# Altium schematic symbol library Alt_git.SchLib: 115 symbols
Pins are listed as number, name and electrical type; pins without a type are passive.

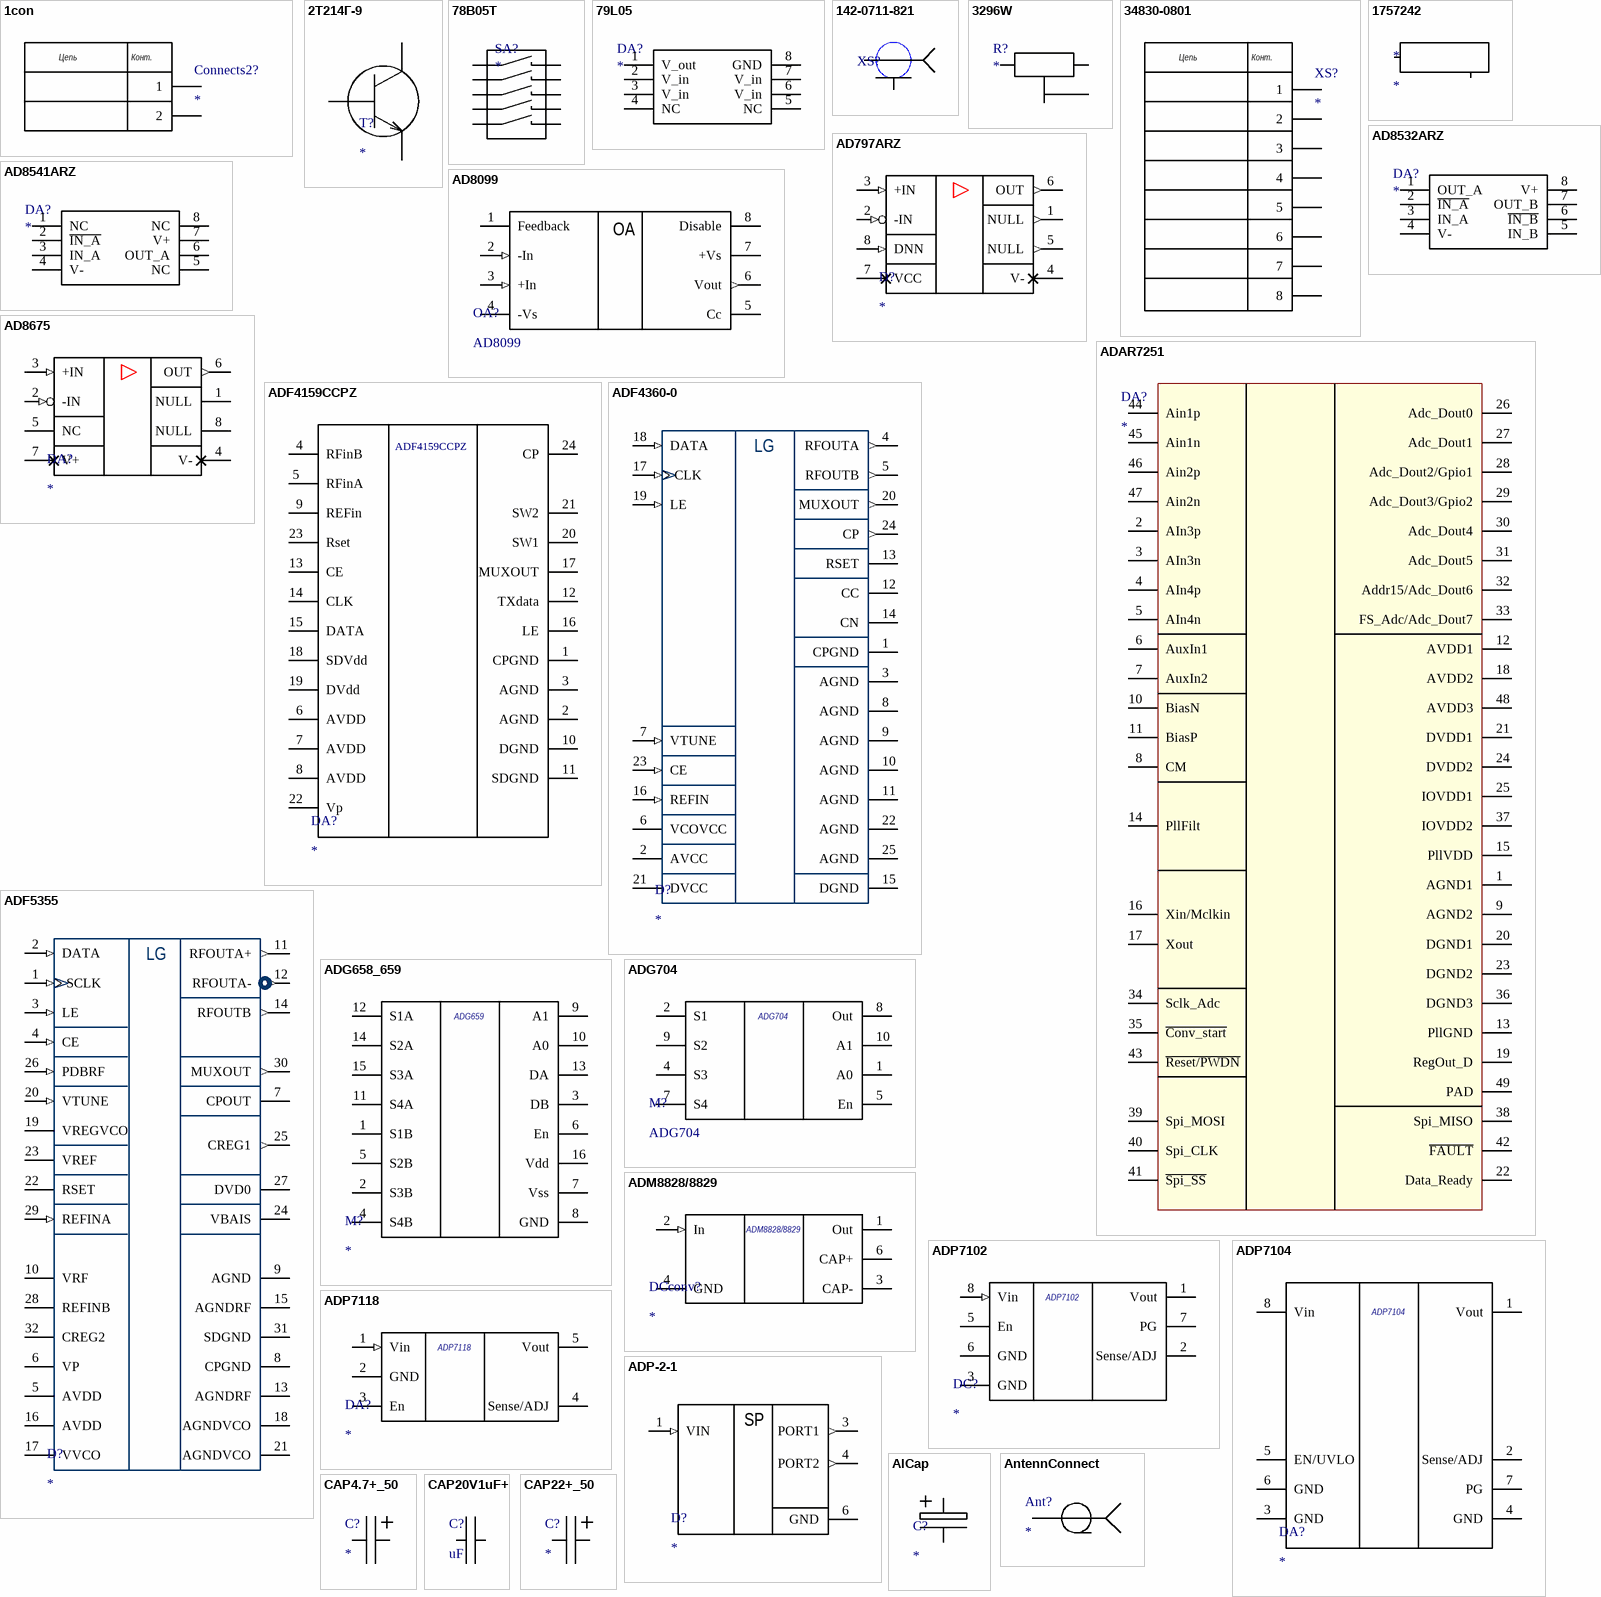
[diagram p0: symbols 1con to CAP22+_50]

## 1con
designator Connects2?
pins: 1, 2
text: Цепь; Конт.

## 2Т214Г-9
designator T?
footprint 2Т214Г-9
pins: 1 B, 2 E, 3 K

## 78B05T
designator SA?
footprint 78B05T
pins: 1, 2, 3, 4, 5, 6, 7, 8, 9, 10

## 79L05
designator DA?
footprint SOIC_8
pins: 1 V_out, 2 V_in, 3 V_in, 4 NC, 5 NC, 6 V_in, 7 V_in, 8 GND

## 142-0711-821
designator XS?  (value not drawn)
footprint 142-0711-821
pins: 1, 2

## 3296W
designator R?
footprint 3296W
pins: 1, 2, 3

## 34830-0801
designator XS?
footprint 34830-0801 (Molex MX150 PCB connector)
pins: 1, 2, 3, 4, 5, 6, 7, 8
text: Цепь; Конт.

## 1757242
designator *
footprint 1757242
pins: 1, 2

## AD797ARZ
designator D?
footprint AD797ARZ
pins: 1 NULL (out), 2 -IN (in), 3 +IN (in), 4 V- (power), 5 NULL (out), 6 OUT (out), 7 VCC (power), 8 DNN (in)

## AD8099
designator OA?
footprint SOIC_8_EP
pins: 1 Feedback, 2 -In (in), 3 +In (in), 4 -Vs, 5 Cc, 6 Vout (out), 7 +Vs, 8 Disable
text: OA

## AD8532ARZ
designator DA?
footprint SOIC_8
pins: 1 OUT_A, 2 ~{IN_A}, 3 IN_A, 4 V-, 5 IN_B, 6 ~{IN_B}, 7 OUT_B, 8 V+

## AD8541ARZ
designator DA?
footprint SOIC_8
pins: 1 NC, 2 ~{IN_A}, 3 IN_A, 4 V-, 5 NC, 6 OUT_A, 7 V+, 8 NC

## AD8675
designator DA?
footprint SOIC_8
pins: 1 NULL, 2 -IN (in), 3 +IN (in), 4 V- (power), 5 NC, 6 OUT (out), 7 V+ (power), 8 NULL

## ADAR7251
designator DA?
footprint PQFN50P700X700X100_HS-49N (PQFN, 48-Leads, Body 7,00x7,00mm, Pitch 0,50mm, Thermal Pad 4,00x5,60mm, IPC Medium Density)
pins: 1 AGND1, 2 AIn3p, 3 AIn3n, 4 AIn4p, 5 AIn4n, 6 AuxIn1, 7 AuxIn2, 8 CM, 9 AGND2, 10 BiasN, 11 BiasP, 12 AVDD1, 13 PllGND, 14 PllFilt, 15 PllVDD, 16 Xin/Mclkin, 17 Xout, 18 AVDD2, 19 RegOut_D, 20 DGND1, 21 DVDD1, 22 Data_Ready, 23 DGND2, 24 DVDD2, 25 IOVDD1, 26 Adc_Dout0, 27 Adc_Dout1, 28 Adc_Dout2/Gpio1, 29 Adc_Dout3/Gpio2, 30 Adc_Dout4, 31 Adc_Dout5, 32 Addr15/Adc_Dout6, 33 FS_Adc/Adc_Dout7, 34 Sclk_Adc, 35 ~{Conv_start}, 36 DGND3, 37 IOVDD2, 38 Spi_MISO, 39 Spi_MOSI, 40 Spi_CLK, 41 ~{Spi_SS}, 42 ~{FAULT}, 43 ~{Reset/PWDN}, 44 Ain1p, 45 Ain1n, 46 Ain2p, 47 Ain2n, 48 AVDD3, 49 PAD

## ADF4159CCPZ
designator DA?
footprint CP-24-10
pins: 1 CPGND, 2 AGND, 3 AGND, 4 RFinB, 5  RFinA, 6 AVDD, 7 AVDD, 8 AVDD, 9 REFin, 10 DGND, 11 SDGND, 12 TXdata, 13 CE, 14 CLK, 15 DATA, 16 LE, 17 MUXOUT, 18 SDVdd, 19 DVdd, 20 SW1, 21 SW2, 22 Vp, 23 Rset, 24 CP

## ADF4360-0
designator D?
footprint ADF4360-0
pins: 1 CPGND (power), 2 AVCC (power), 3 AGND (power), 4 RFOUTA (out), 5 RFOUTB (out), 6 VCOVCC (power), 7 VTUNE (in), 8 AGND (power), 9 AGND (power), 10 AGND (power), 11 AGND (power), 12 CC, 13 RSET, 14 CN, 15 DGND (power), 16 REFIN (in), 17 CLK (in), 18 DATA (in), 19 LE (in), 20 MUXOUT (out), 21 DVCC (power), 22 AGND (power), 23 CE (in), 24 CP (out), 25 AGND (power)
text: LG

## ADF5355
designator D?
footprint ADF5355
pins: 1 SCLK (in), 2 DATA (in), 3 LE (in), 4 CE (in), 5 AVDD, 6 VP (power), 7 CPOUT (power), 8 CPGND (power), 9 AGND (power), 10 VRF (power), 11 RFOUTA+ (out), 12 RFOUTA- (out), 13 AGNDRF (power), 14 RFOUTB (out), 15 AGNDRF (power), 16 AVDD (power), 17 VVCO (power), 18 AGNDVCO (power), 19 VREGVCO (power), 20 VTUNE (in), 21 AGNDVCO (power), 22 RSET, 23 VREF, 24 VBAIS, 25 CREG1 (out), 26 PDBRF (in), 27 DVD0 (power), 28 REFINB (power), 29 REFINA (in), 30 MUXOUT (out), 31 SDGND (power), 32 CREG2 (power)
text: LG

## ADG658_659
designator M?
footprint TSSOP16
pins: 1 S1B (power), 2 S3B, 3 DB, 4 S4B, 5 S2B, 6 En (power), 7 Vss, 8 GND, 9 A1, 10 A0, 11 S4A, 12 S1A (power), 13 DA, 14 S2A, 15 S3A, 16 Vdd
text: ADG659

## ADG704
designator M?
footprint SOIC10
pins: 1 A0, 2 S1 (power), 4 S3, 5 En (power), 7 S4, 8 Out, 9 S2, 10 A1

## ADM8828/8829
designator DCconv?
footprint 6-Lead_SOT23
pins: 1 Out, 2 In (in), 3 CAP-, 4 GND, 6 CAP+

## ADP7102
designator DC?
footprint SOIC_8_EP
pins: 1 Vout, 2 Sense/ADJ, 3 GND, 5 En, 6 GND, 7 PG, 8 Vin (in)

## ADP7104
designator DA?
footprint SOIC_8_EP
pins: 1 Vout, 2 Sense/ADJ, 3 GND, 4 GND, 5 EN/UVLO, 6 GND, 7 PG, 8 Vin

## ADP7118
designator DA?
footprint TSOT5
pins: 1 Vin (in), 2 GND, 3 En, 4 Sense/ADJ, 5 Vout

## ADP-2-1
designator D?
footprint ADP-2-1
pins: 1 VIN (in), 3 PORT1 (out), 4 PORT2 (out), 6 GND (power)
text: SP

## AlCap
designator C?
footprint 0405AlC
pins: 1, 2

## AntennConnect
designator Ant?
footprint AntennConnect
pins: 1

## CAP4.7+_50
designator C?
footprint CAP4.7+_50
pins: 1, 2

## CAP20V1uF+
designator C?, comment uF
footprint 7343-43EIA
pins: 1, 2

## CAP22+_50
designator C?
footprint CAP22+_50
pins: 1, 2

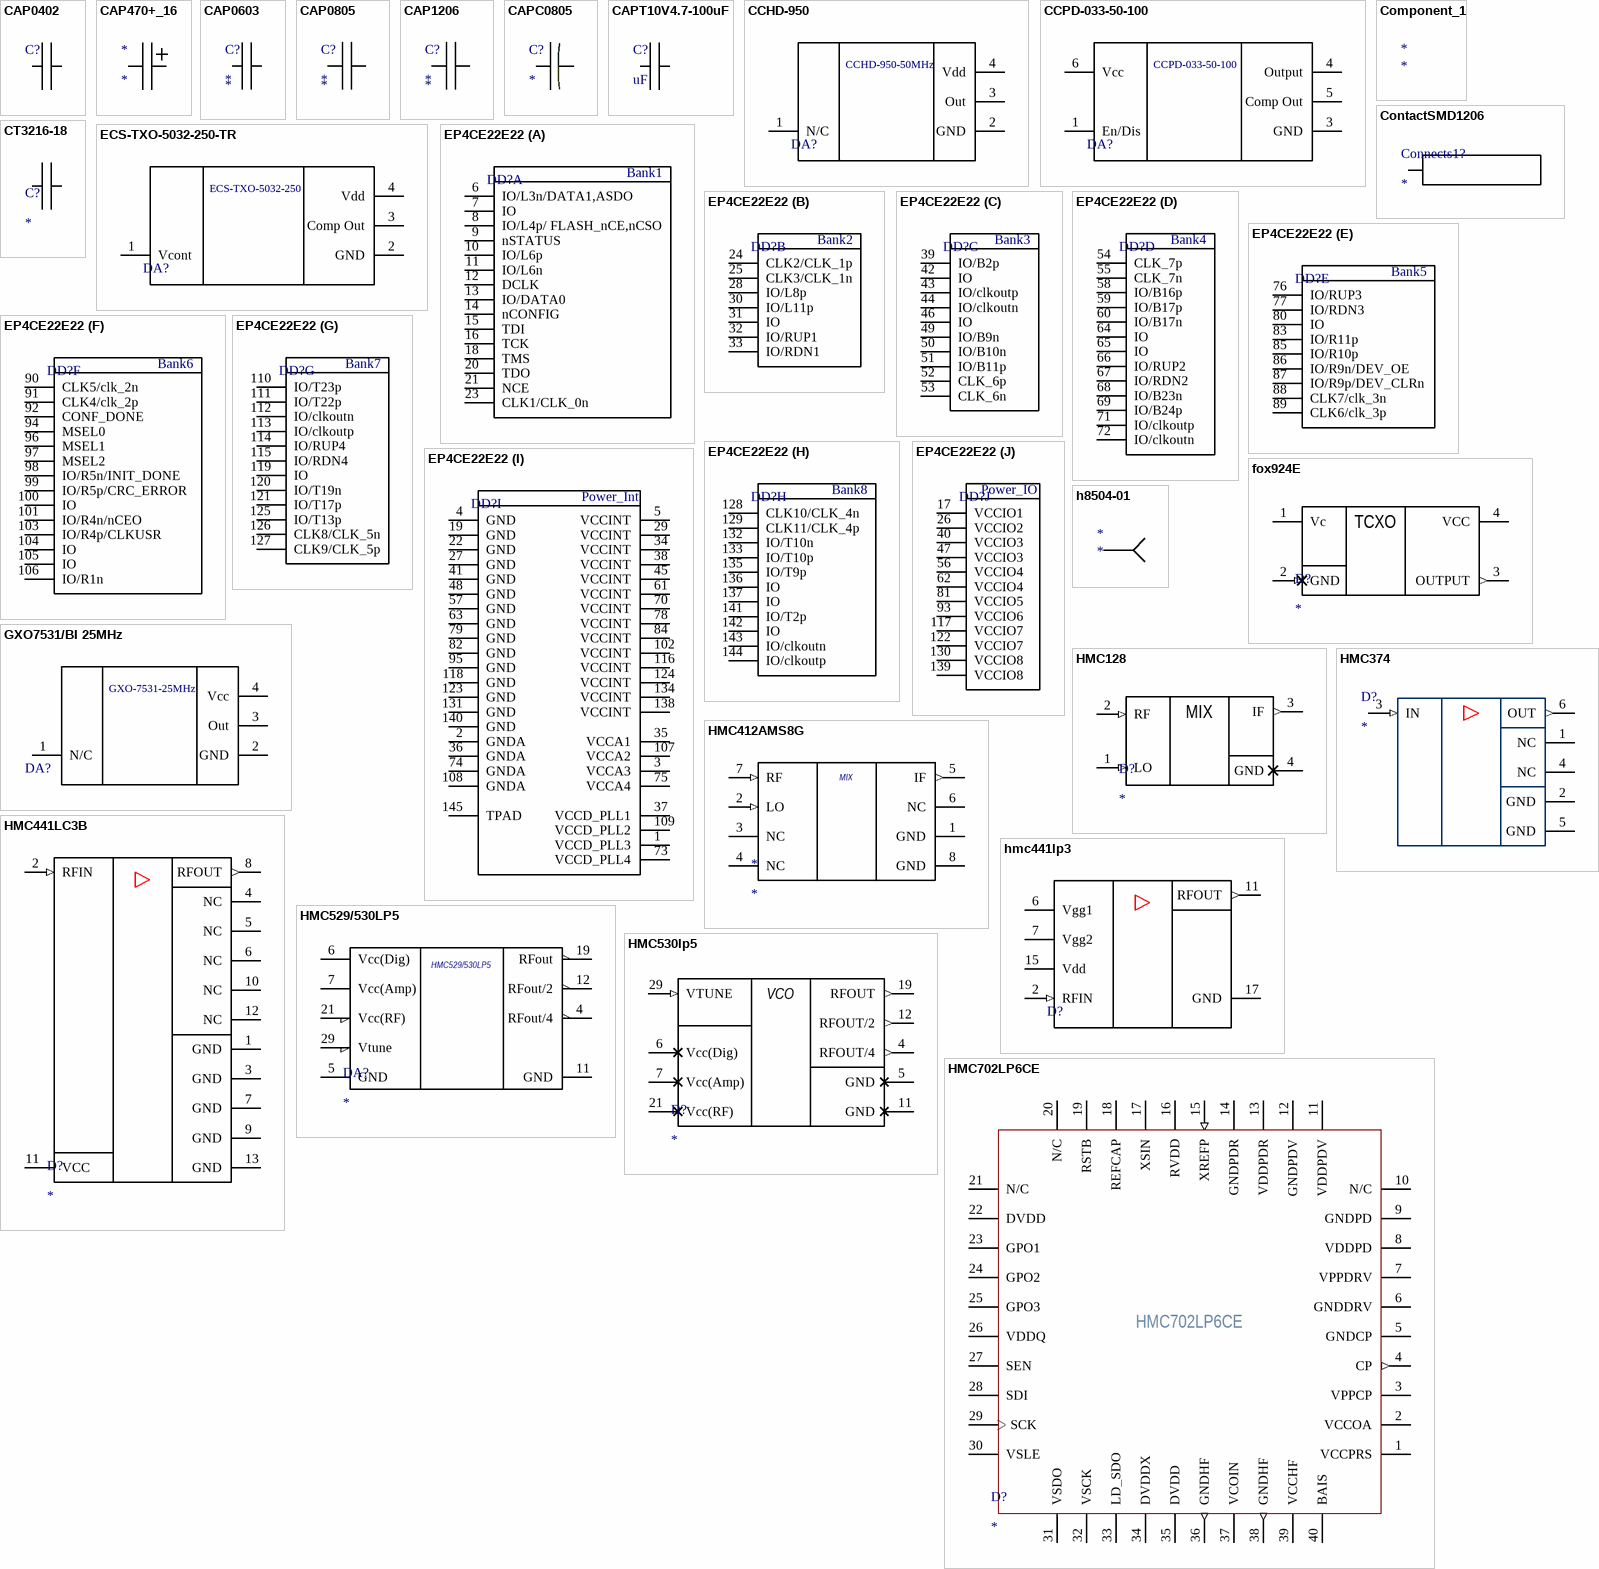
[diagram p1: symbols CAP0402 to HMC702LP6CE]

## CAP0402
designator C?
footprint CAP0402
pins: 1, 2

## CAP470+_16
designator *
footprint CAP470+_16
pins: 1, 2

## CAP0603
designator C?
Value: *
footprint CAP0603
pins: 1, 2

## CAP0805
designator C?
Value: *
footprint SMD0805
pins: 1, 2

## CAP1206
designator C?
Value: *
footprint SMD1206
pins: 1, 2

## CAPC0805
designator C?
footprint SMD0805
pins: 1, 2

## CAPT10V4.7-100uF
designator C?, comment uF
footprint B3528-21
pins: 1, 2

## CCHD-950
designator DA?  (value not drawn)
footprint CCHD-950
pins: 1 N/C, 2 GND (power), 3 Out, 4 Vdd
text: CCHD-950-50MHz

## CCPD-033-50-100
designator DA?  (value not drawn)
footprint CCPD
pins: 1 En/Dis, 3 GND, 4 Output, 5 Comp Out (power), 6 Vcc

## Component_1
designator *

## ContactSMD1206
designator Connects1?
pins: 1

## CT3216-18
designator C?
footprint 3216-18
pins: 1, 2

## ECS-TXO-5032-250-TR
designator DA?  (value not drawn)
footprint ECS-TXO-5032
pins: 1 Vcont, 2 GND, 3 Comp Out (power), 4 Vdd
text: ECS-TXO-5032-250

## EP4CE22E22
designator DD?  (value not drawn)
footprint EQFP144_TP (SQFP, 144-Leads, Body 20,00x20,00mm, Pitch 0,50mm, Thermal Pad 7,00x7,00mm, IPC Medium Density)
part A pins: 6 IO/L3n/DATA1,ASDO, 7 IO, 8 IO/L4p/ FLASH_nCE,nCSO, 9 nSTATUS, 10 IO/L6p, 11 IO/L6n, 12 DCLK, 13 IO/DATA0, 14 nCONFIG, 15 TDI, 16 TCK, 18 TMS, 20 TDO, 21 NCE, 23 CLK1/CLK_0n
part B pins: 24 CLK2/CLK_1p, 25 CLK3/CLK_1n, 28 IO/L8p, 30 IO/L11p, 31 IO, 32 IO/RUP1, 33 IO/RDN1
part C pins: 39 IO/B2p, 42 IO, 43 IO/clkoutp, 44 IO/clkoutn, 46 IO, 49 IO/B9n, 50 IO/B10n, 51 IO/B11p, 52 CLK_6p, 53 CLK_6n
part D pins: 54 CLK_7p, 55 CLK_7n, 58 IO/B16p, 59 IO/B17p, 60 IO/B17n, 64 IO, 65 IO, 66 IO/RUP2, 67 IO/RDN2, 68 IO/B23n, 69 IO/B24p, 71 IO/clkoutp, 72 IO/clkoutn
part E pins: 76 IO/RUP3, 77 IO/RDN3, 80 IO, 83 IO/R11p, 85 IO/R10p, 86 IO/R9n/DEV_OE, 87 IO/R9p/DEV_CLRn, 88 CLK7/clk_3n, 89 CLK6/clk_3p
part F pins: 90 CLK5/clk_2n, 91 CLK4/clk_2p, 92 CONF_DONE, 94 MSEL0, 96 MSEL1, 97 MSEL2, 98 IO/R5n/INIT_DONE, 99 IO/R5p/CRC_ERROR, 100 IO, 101 IO/R4n/nCEO, 103 IO/R4p/CLKUSR, 104 IO, 105 IO, 106 IO/R1n
part G pins: 110 IO/T23p, 111 IO/T22p, 112 IO/clkoutn, 113 IO/clkoutp, 114 IO/RUP4, 115 IO/RDN4, 119 IO, 120 IO/T19n, 121 IO/T17p, 125 IO/T13p, 126 CLK8/CLK_5n, 127 CLK9/CLK_5p
part H pins: 128 CLK10/CLK_4n, 129 CLK11/CLK_4p, 132 IO/T10n, 133 IO/T10p, 135 IO/T9p, 136 IO, 137 IO, 141 IO/T2p, 142 IO, 143 IO/clkoutn, 144 IO/clkoutp
part I pins: 1 VCCD_PLL3, 2 GNDA, 3 VCCA3, 4 GND, 5 VCCINT, 19 GND, 22 GND, 27 GND, 29 VCCINT, 34 VCCINT, 35 VCCA1, 36 GNDA, 37 VCCD_PLL1, 38 VCCINT, 41 GND, 45 VCCINT, 48 GND, 57 GND, 61 VCCINT, 63 GND, 70 VCCINT, 73 VCCD_PLL4, 74 GNDA, 75 VCCA4, 78 VCCINT, 79 GND, 82 GND, 84 VCCINT, 95 GND, 102 VCCINT, 107 VCCA2, 108 GNDA, 109 VCCD_PLL2, 116 VCCINT, 118 GND, 123 GND, 124 VCCINT, 131 GND, 134 VCCINT, 138 VCCINT, 140 GND, 145 TPAD
part J pins: 17 VCCIO1, 26 VCCIO2, 40 VCCIO3, 47 VCCIO3, 56 VCCIO4, 62 VCCIO4, 81 VCCIO5, 93 VCCIO6, 117 VCCIO7, 122 VCCIO7, 130 VCCIO8, 139 VCCIO8
part A text: Bank1
part B text: Bank2
part C text: Bank3
part D text: Bank4
part E text: Bank5
part F text: Bank6
part G text: Bank7
part H text: Bank8
part I text: Power_Int
part J text: Power_IO

## fox924E
designator D?
footprint fox924E
pins: 1 Vc (power), 2 GND (in), 3 OUTPUT (out), 4 VCC (power)
text: TCXO

## GXO7531/BI 25MHz
designator DA?  (value not drawn)
footprint DFN400P700X145-4N
pins: 1 N/C, 2 GND (power), 3 Out, 4 Vcc
text: GXO-7531-25MHz

## h8504-01
designator *
footprint H8504-01
pins: 1

## HMC128
designator D?
footprint HMC128
pins: 1 LO (in), 2 RF (in), 3 IF (out), 4 GND (power)
text: MIX

## HMC374
designator D?
footprint HMC374
pins: 1 NC, 2 GND (power), 3 IN (in), 4 NC, 5 GND (power), 6 OUT (out)

## HMC412AMS8G
designator *
footprint HMC412AMS8G
pins: 1 GND, 2 LO (in), 3 NC, 4 NC, 5 IF (out), 6 NC, 7 RF (in), 8 GND
text: MIX

## HMC441LC3B
designator D?
footprint HMC441LC3B
pins: 1 GND (power), 2 RFIN (in), 3 GND (power), 4 NC, 5 NC, 6 NC, 7 GND (power), 8 RFOUT (out), 9 GND (power), 10 NC, 11 VCC (power), 12 NC, 13 GND (power)

## hmc441lp3
designator D?  (value not drawn)
footprint Unknown16
pins: 2 RFIN (in), 6 Vgg1, 7 Vgg2 (power), 11 RFOUT (out), 15 Vdd (power), 17 GND (power)

## HMC529/530LP5
designator DA?
footprint QFN32
pins: 4 RFout/4, 5 GND, 6 Vcc(Dig) (power), 7 Vcc(Amp) (power), 11 GND (power), 12 RFout/2, 19 RFout, 21 Vcc(RF), 29 Vtune

## HMC530lp5
designator D?
footprint HMC530lp5
pins: 4 RFOUT/4 (out), 5 GND (power), 6 Vcc(Dig) (power), 7 Vcc(Amp) (power), 11 GND (power), 12 RFOUT/2 (out), 19 RFOUT (out), 21 Vcc(RF) (power), 29 VTUNE (in)
text: VCO

## HMC702LP6CE
designator D?
footprint HMC702LP6CE
pins: 1 VCCPRS (power), 2 VCCOA (power), 3 VPPCP (power), 4 CP (out), 5 GNDCP, 6 GNDDRV, 7 VPPDRV (power), 8 VDDPD (power), 9 GNDPD, 10 N/C (power), 11 VDDPDV (power), 12 GNDPDV, 13 VDDPDR (power), 14 GNDPDR, 15 XREFP (in), 16 RVDD, 17 XSIN (power), 18 REFCAP (power), 19 RSTB (power), 20 N/C (power), 21 N/C (power), 22 DVDD, 23 GPO1 (power), 24 GPO2 (power), 25 GPO3 (power), 26 VDDQ, 27 SEN (oe), 28 SDI (oe), 29 SCK (oe), 30 VSLE (power), 31 VSDO (power), 32 VSCK (power), 33 LD_SDO (oe), 34 DVDDX, 35 DVDD, 36 GNDHF (out), 37 VCOIN (power), 38 GNDHF (out), 39 VCCHF (power), 40 BAIS (oe)

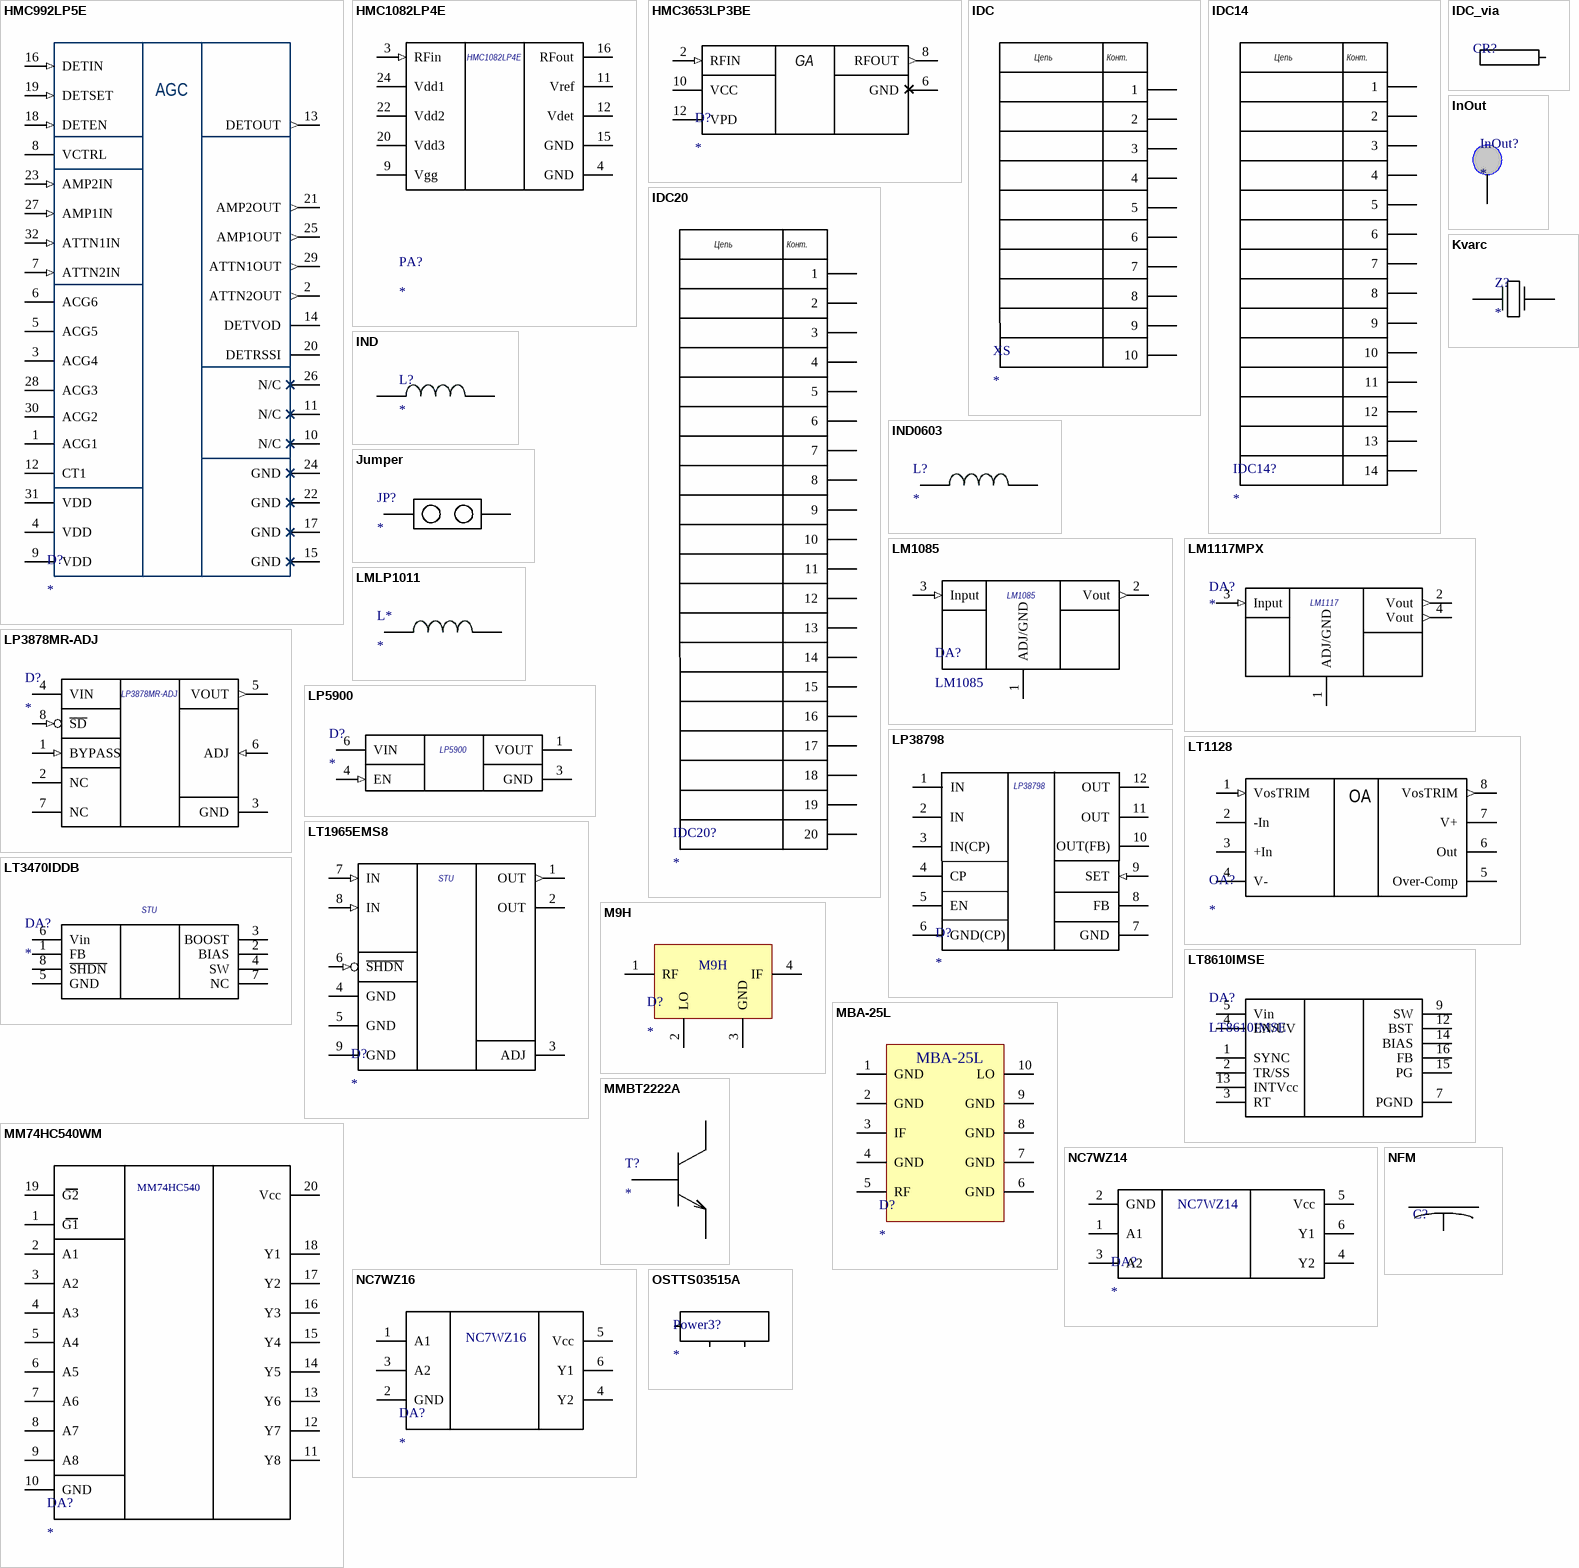
[diagram p2: symbols HMC992LP5E to OSTTS03515A]

## HMC992LP5E
designator D?
footprint HMC992LP5E
pins: 1 ACG1, 2 ATTN2OUT (out), 3 ACG4, 4 VDD, 5 ACG5, 6 ACG6, 7 ATTN2IN (in), 8 VCTRL, 9 VDD (power), 10 N/C, 11 N/C, 12 CT1, 13 DETOUT (out), 14 DETVOD, 15 GND, 16 DETIN (in), 17 GND, 18 DETEN (in), 19 DETSET (in), 20 DETRSSI, 21 AMP2OUT (out), 22 GND, 23 AMP2IN (in), 24 GND, 25  AMP1OUT (out), 26 N/C, 27 AMP1IN (in), 28 ACG3, 29 ATTN1OUT (out), 30 ACG2, 31 VDD, 32 ATTN1IN (in)
text: AGC

## HMC1082LP4E
designator PA?
footprint HMC1082LP4E
pins: 3 RFin (in), 4 GND (power), 9 Vgg, 11 Vref, 12 Vdet, 15 GND, 16 RFout, 20 Vdd3 (power), 22 Vdd2 (power), 24 Vdd1 (power)

## HMC3653LP3BE
designator D?
footprint HMC3653LP3BE
pins: 2 RFIN (in), 6 GND (power), 8 RFOUT (out), 10 VCC (power), 12 VPD (power)
text: GA

## IDC
designator XS
footprint Connects10
pins: 1, 2, 3, 4, 5, 6, 7, 8, 9, 10
text: Цепь; Конт.

## IDC14
designator IDC14?
footprint Connects14
pins: 1, 2, 3, 4, 5, 6, 7, 8, 9, 10, 11, 12, 13, 14
text: Цепь; Конт.

## IDC20
designator IDC20?
footprint Connects20
pins: 1, 2, 3, 4, 5, 6, 7, 8, 9, 10, 11, 12, 13, 14, 15, 16, 17, 18, 19, 20
text: Цепь; Конт.

## IDC_via
designator CR?  (value not drawn)
footprint IDC_via
pins: 1

## IND
designator L?
footprint SMD0805
pins: 1, 2 34

## IND0603
designator L?
footprint SMD0603
pins: 1, 2 34

## InOut
designator InOut?
pins: 33

## Jumper
designator JP?
footprint Jumper
pins: 1, 2

## Kvarc
designator Z?
footprint Kvarc
pins: 1, 2

## LM1085
designator DA?
footprint TS3B
pins: 1 ADJ/GND (power), 2 Vout (out), 3 Input (in)

## LM1117MPX
designator DA?
footprint SOT230P700X180-4N (SOT223, 4-Leads, Body 6,50x7,00mm (avg), Pitch 2,30mm, IPC Medium Density)
pins: 1 ADJ/GND (power), 2 Vout (out), 3 Input (in), 4 Vout (out)
text: LM1117

## LMLP1011
designator L*
footprint LMLP1011 (AVX LMLP Style D Inductor)
pins: 1, 2

## LP3878MR-ADJ
designator D?
footprint LP3878MR-ADJ
pins: 1 BYPASS (in), 2 NC, 3 GND (power), 4 VIN (power), 5 VOUT (out), 6 ADJ (in), 7 NC, 8 ~{SD} (in)

## LP5900
designator D?
footprint LP5900
pins: 1 VOUT (power), 3 GND (power), 4 EN (in), 6 VIN (power)

## LP38798
designator D?
footprint LP38798
pins: 1 IN (power), 2 IN (power), 3 IN(CP) (power), 4 CP (power), 5 EN (power), 6 GND(CP), 7 GND (power), 8 FB (power), 9 SET (in), 10 OUT(FB) (power), 11 OUT (power), 12 OUT (power)

## LT1128
designator OA?
footprint S8
pins: 1 VosTRIM (in), 2 -In, 3 +In, 4 V-, 5 Over-Comp, 6 Out, 7 V+, 8 VosTRIM (out)
text: OA

## LT1965EMS8
designator D?
footprint LT1965EMS8
pins: 1 OUT (out), 2 OUT, 3 ADJ, 4 GND, 5 GND, 6 ~{SHDN} (in), 7 IN (in), 8 IN (in), 9 GND (power)
text: STU

## LT3470IDDB
designator DA?
footprint DDB8; pin to pad 5>5+9
pins: 1 FB, 2 BIAS, 3 BOOST, 4 SW, 5 GND, 6 Vin, 7 NC, 8 ~{SHDN}
text: STU

## LT8610IMSE
designator DA?
Value: LT8610IMSE
footprint TSSOP50P540X100_HS-17N (TSSOP, 16-Leads, Body 4,00x3,00mm, Pitch 0,50mm, Thermal Pad 2,90x1,70mm, IPC Medium Density)
pins: 1 SYNC, 2 TR/SS, 3 RT, 4 EN/UV, 5 Vin, 7 PGND, 9 SW, 12 BST, 13 INTVcc, 14 BIAS, 15 PG, 16 FB

## M9H
designator D?
pins: 1 RF, 2 LO, 3 GND, 4 IF

## MBA-25L
designator D?
footprint MBA-25L
pins: 1 GND, 2 GND, 3 IF, 4 GND, 5 RF, 6 GND, 7 GND, 8 GND, 9 GND, 10 LO

## MM74HC540WM
designator DA?
footprint SOIC20
pins: 1 G1, 2 A1, 3 A2, 4 A3, 5 A4, 6 A5, 7 A6, 8 A7, 9 A8, 10 GND, 11 Y8, 12 Y7, 13 Y6, 14 Y5, 15 Y4, 16 Y3, 17 Y2, 18 Y1, 19 G2, 20 Vcc
text: MM74HC540

## MMBT2222A
designator T?
footprint MMBT2222A
pins: 1 B, 2 E, 3 K

## NC7WZ14
designator DA?
footprint SC70
pins: 1 A1, 2 GND, 3 A2, 4 Y2, 5 Vcc, 6 Y1

## NC7WZ16
designator DA?
footprint SC70
pins: 1 A1, 2 GND, 3 A2, 4 Y2, 5 Vcc, 6 Y1

## NFM
designator C?  (value not drawn)
footprint FV1206
pins: 1, 2, 3

## OSTTS03515A
designator Power3?
footprint OSTTS03515A
pins: 1, 2, 3

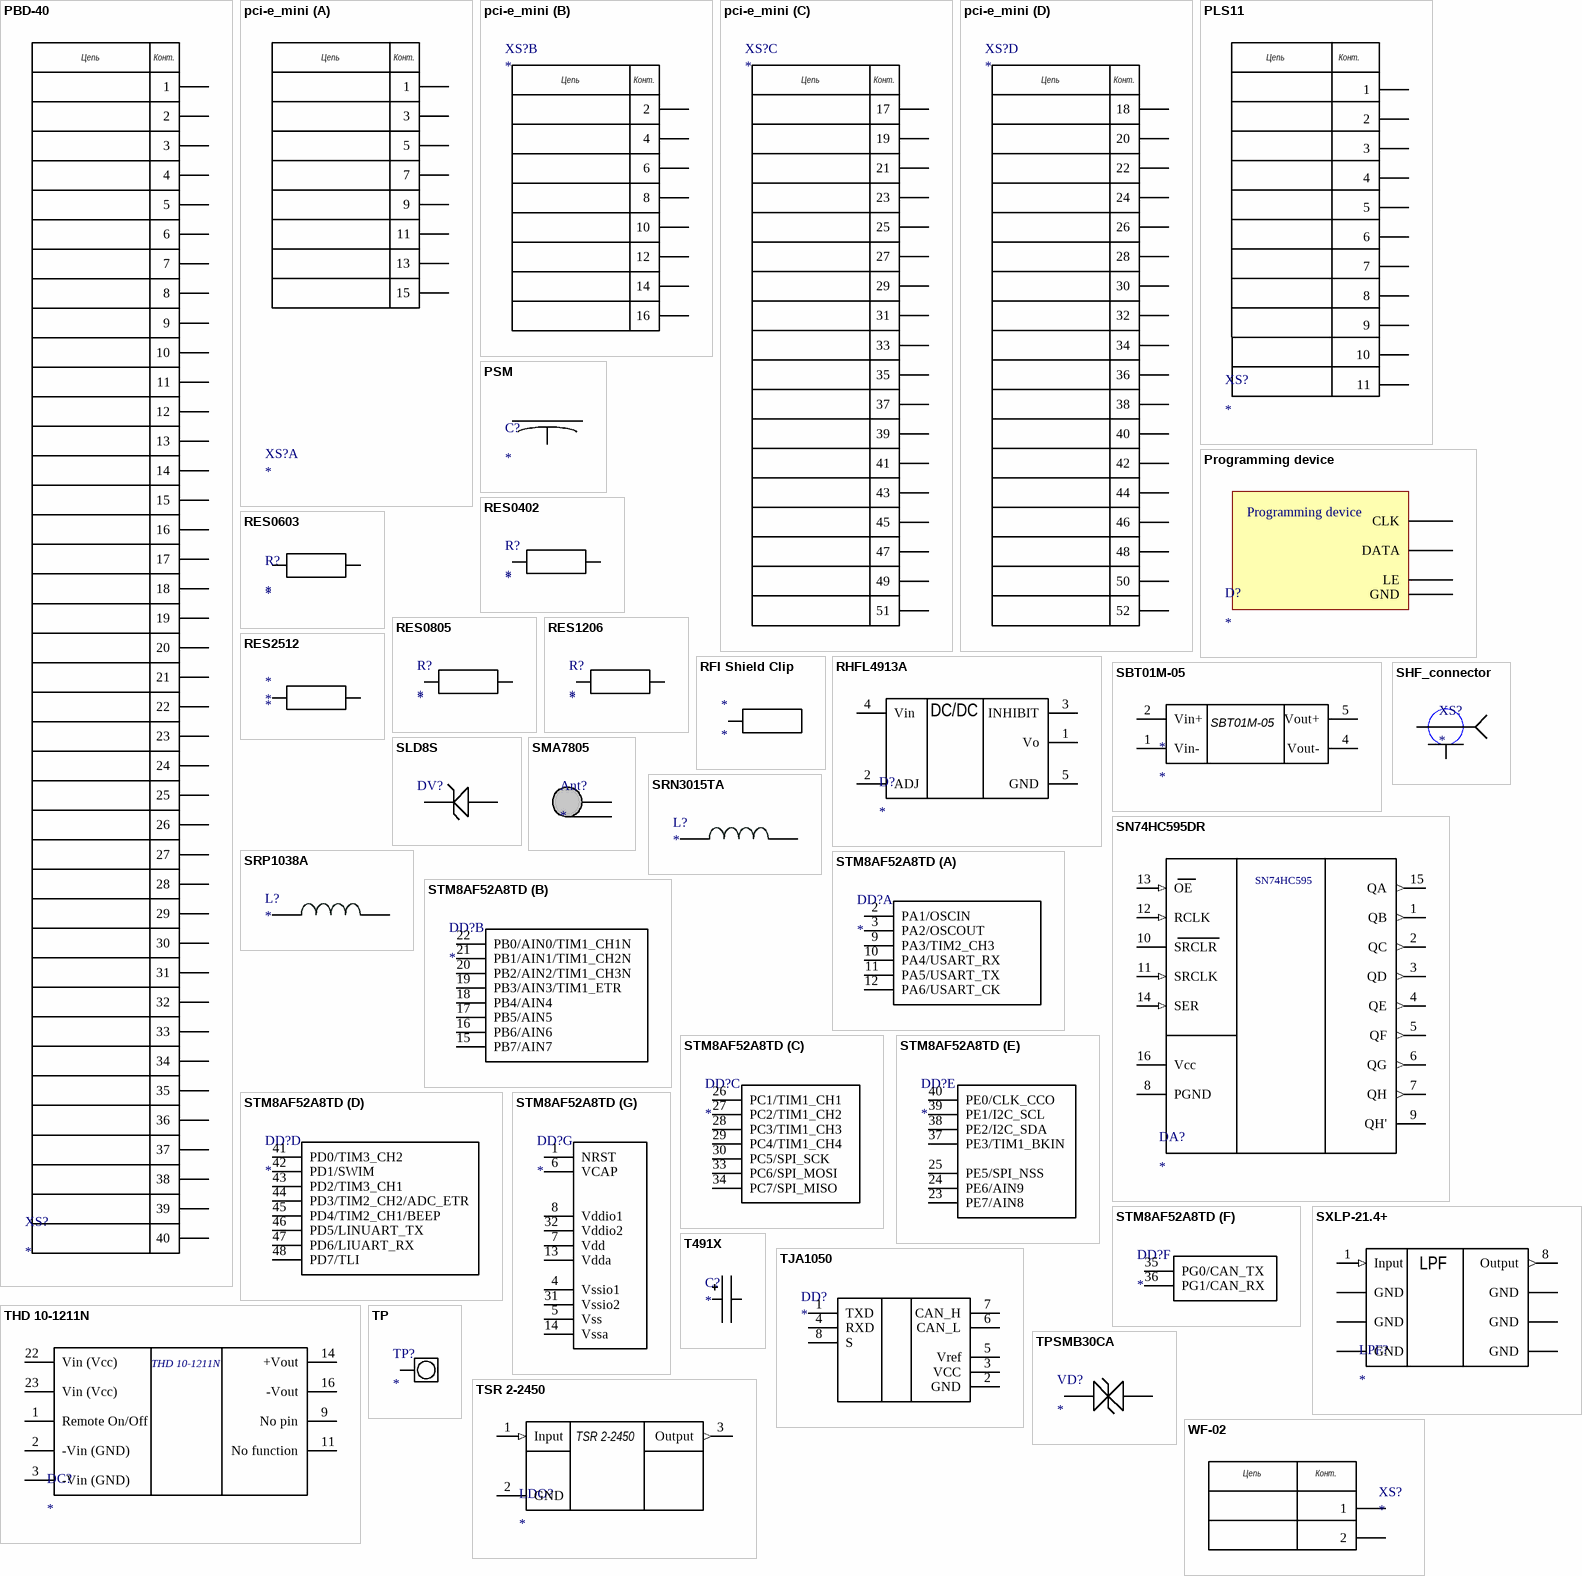
[diagram p3: symbols PBD-40 to WF-02]

## PBD-40
designator XS?
footprint PBD-40
pins: 1, 2, 3, 4, 5, 6, 7, 8, 9, 10, 11, 12, 13, 14, 15, 16, 17, 18, 19, 20, 21, 22, 23, 24, 25, 26, 27, 28, 29, 30, 31, 32, 33, 34, 35, 36, 37, 38, 39, 40
text: Цепь; Конт.

## pci-e_mini
designator XS?
footprint PCI-E_mini
part A pins: 1, 3, 5, 7, 9, 11, 13, 15
part B pins: 2, 4, 6, 8, 10, 12, 14, 16
part C pins: 17, 19, 21, 23, 25, 27, 29, 31, 33, 35, 37, 39, 41, 43, 45, 47, 49, 51
part D pins: 18, 20, 22, 24, 26, 28, 30, 32, 34, 36, 38, 40, 42, 44, 46, 48, 50, 52
part A text: Цепь; Конт.
part B text: Цепь; Конт.
part C text: Цепь; Конт.
part D text: Цепь; Конт.

## PLS11
designator XS?
footprint PLS11
pins: 1, 2, 3, 4, 5, 6, 7, 8, 9, 10, 11
text: Цепь; Конт.

## Programming device
designator D?
pins: 1 CLK, 2 DATA, 3 LE, 4 GND

## PSM
designator C?
footprint PSM
pins: 1, 2, 3

## RES0402
designator R?
Value: *
footprint RES0402
pins: 1, 2

## RES0603
designator R?
Value: *
footprint RES0603
pins: 1, 2

## RES0805
designator R?
Value: *
footprint SMD0805
pins: 1, 2

## RES1206
designator R?
Value: *
footprint SMD1206
pins: 1, 2

## RES2512
designator *
Value: *
footprint RESC6331X09N (Chip Resistor, 2-Leads, Body 6,35x3,10mm, IPC Medium Density)
pins: 1, 2

## RFI Shield Clip
designator *
footprint RFI Shield Clip
pins: 1

## RHFL4913A
designator D?
footprint SMD5C
pins: 1 Vo, 2 ADJ, 3 INHIBIT, 4 Vin, 5 GND
text: DC/DC

## SBT01M-05
designator *
footprint SBT01M-05
pins: 1 Vin-, 2 Vin+, 4 Vout-, 5  Vout+

## SHF_connector
designator XS?
footprint 142-0761-861
pins: 1, 2

## SLD8S
designator DV?  (value not drawn)
footprint SMTO-263
pins: 1, 2

## SMA7805
designator Ant?
footprint SMA7805
pins: 1

## SN74HC595DR
designator DA?
footprint SOIC16
pins: 1 QB (out), 2 QC (out), 3 QD (out), 4 QE (out), 5 QF (out), 6 QG (out), 7 QH (out), 8 PGND (power), 9 QH', 10 SRCLR, 11 SRCLK (in), 12 RCLK (in), 13 OE (in), 14 SER (in), 15 QA (out), 16 Vcc (power)
text: SN74HC595

## SRN3015TA
designator L?
footprint SRN3015TA
pins: 1, 2

## SRP1038A
designator L?
footprint SRP1038A
pins: 1, 2

## STM8AF52A8TD
designator DD?
footprint TSQFP50P900X900X160-48N (TSQFP, 48-Leads, Body 7,00x7,00mm, Pitch 0,50mm, IPC Medium Density)
part A pins: 2 PA1/OSCIN, 3 PA2/OSCOUT, 9 PA3/TIM2_CH3, 10 PA4/USART_RX, 11 PA5/USART_TX, 12 PA6/USART_CK
part B pins: 15 PB7/AIN7, 16 PB6/AIN6, 17 PB5/AIN5, 18 PB4/AIN4, 19 PB3/AIN3/TIM1_ETR, 20 PB2/AIN2/TIM1_CH3N, 21 PB1/AIN1/TIM1_CH2N, 22 PB0/AIN0/TIM1_CH1N
part C pins: 26 PC1/TIM1_CH1, 27 PC2/TIM1_CH2, 28 PC3/TIM1_CH3, 29 PC4/TIM1_CH4, 30 PC5/SPI_SCK, 33 PC6/SPI_MOSI, 34 PC7/SPI_MISO
part D pins: 41 PD0/TIM3_CH2, 42 PD1/SWIM, 43 PD2/TIM3_CH1, 44 PD3/TIM2_CH2/ADC_ETR, 45 PD4/TIM2_CH1/BEEP, 46 PD5/LINUART_TX, 47 PD6/LIUART_RX, 48 PD7/TLI
part E pins: 23 PE7/AIN8, 24 PE6/AIN9, 25 PE5/SPI_NSS, 37 PE3/TIM1_BKIN, 38 PE2/I2C_SDA, 39 PE1/I2C_SCL, 40 PE0/CLK_CCO
part F pins: 35 PG0/CAN_TX, 36 PG1/CAN_RX
part G pins: 1 NRST, 4 Vssio1, 5 Vss, 6 VCAP, 7 Vdd, 8 Vddio1, 13 Vdda, 14 Vssa, 31 Vssio2, 32 Vddio2

## SXLP-21.4+
designator LPF?
footprint SXLP-21.4+
pins: 1 Input (in), 2 GND, 3 GND, 4 GND, 5 GND, 6 GND, 7 GND, 8 Output (out)
text: LPF

## T491X
designator C?
footprint T491D
pins: 1, 2

## THD 10-1211N
designator DC?
footprint THD 10-1211N
pins: 1 Remote On/Off, 2 -Vin (GND), 3 -Vin (GND), 9 No pin, 11 No function, 14 +Vout, 16 -Vout, 22 Vin (Vcc), 23 Vin (Vcc)

## TJA1050
designator DD?
footprint SOIC_8
pins: 1 TXD, 2 GND, 3 VCC, 4 RXD, 5 Vref, 6 CAN_L, 7 CAN_H, 8 S

## TP
designator TP?
footprint TP
pins: 1

## TPSMB30CA
designator VD?
footprint DO-214AA
pins: 1, 2

## TSR 2-2450
designator LDO?
footprint TSR 2-2465
pins: 1 Input (in), 2 GND (power), 3 Output (out)

## WF-02
designator XS?
footprint WF-02
pins: 1, 2
text: Цепь; Конт.

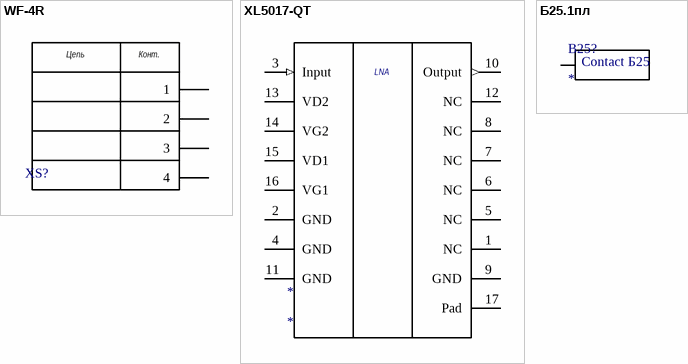
[diagram p4: symbols WF-4R to Б25.1пл]

## WF-4R
designator XS?  (value not drawn)
footprint WF-4R
pins: 1, 2, 3, 4
text: Цепь; Конт.

## XL5017-QT
designator *
footprint XL5017-QT
pins: 1 NC, 2 GND, 3 Input (in), 4 GND, 5 NC, 6 NC, 7 NC, 8 NC, 9 GND, 10 Output (out), 11 GND, 12 NC, 13 VD2, 14 VG2, 15 VD1, 16 VG1, 17 Pad
text: LNA

## Б25.1пл
designator B25?
footprint Б25.1пл
pins: 1
text: Contact Б25